# Altium footprint library FPGA_MG1.PcbLib: 42 footprints (part 3 of 3)
Each footprint in its own frame and in the unit in brackets; x right, y up, seen from the top. Pads: shape width x height; smd on the part's side, far side on the other; paste and mask are expansions set on the pad; w line width, h text height; cw(c..) or ccw(c..) is an arc to the next point about the centre after c.
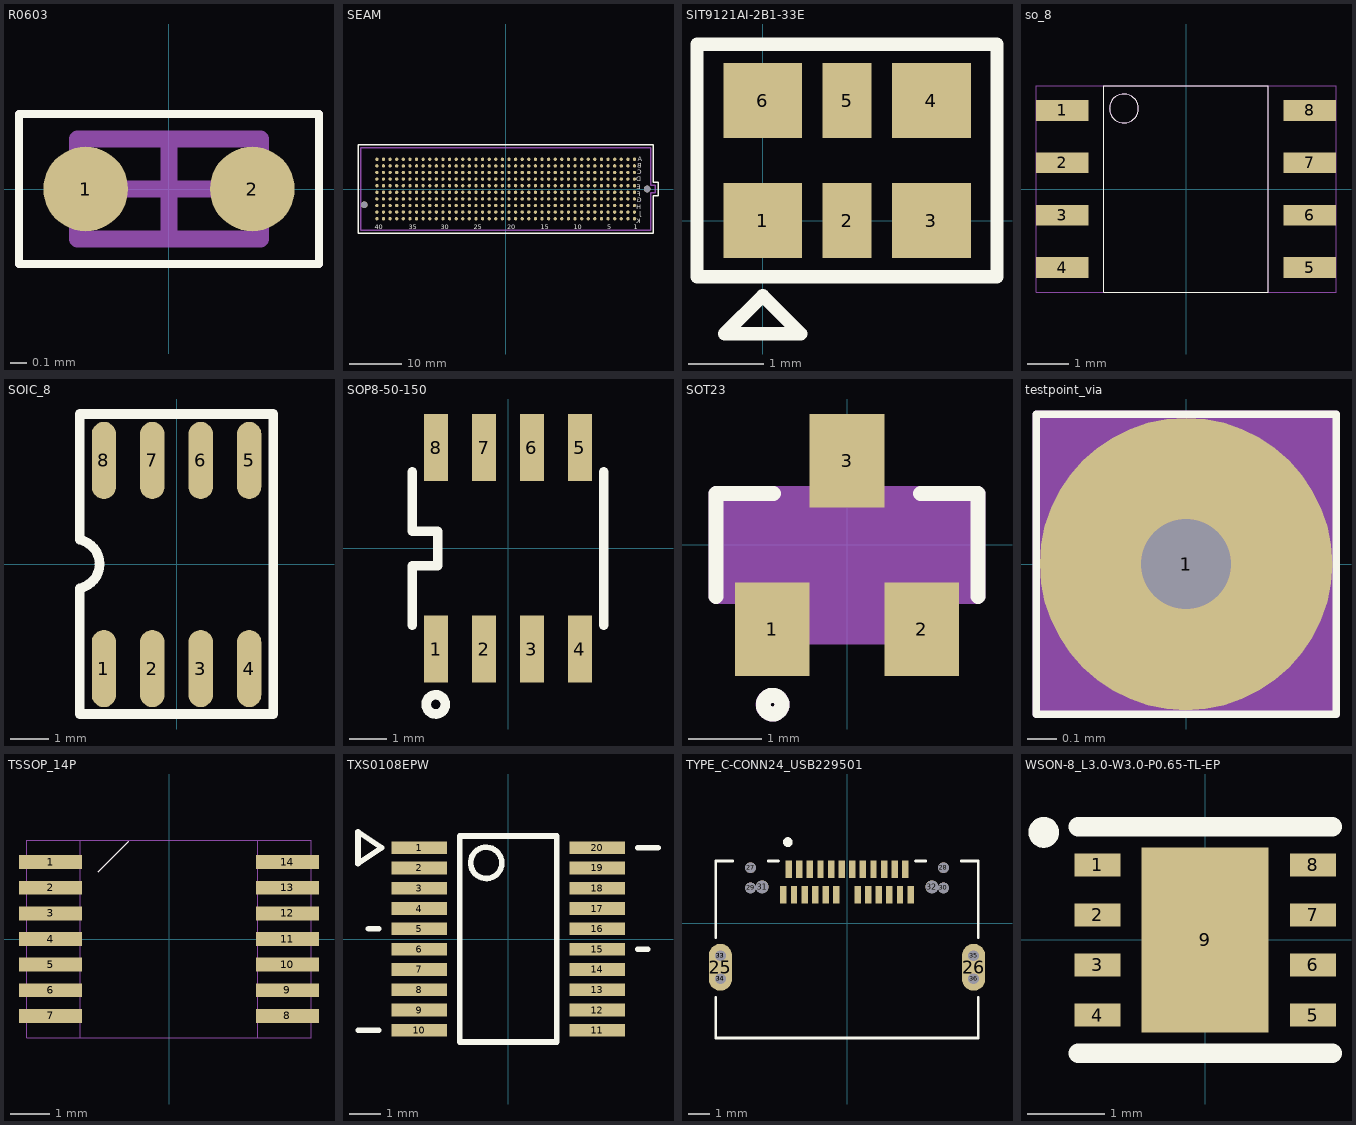
[diagram p2: the footprints below, top view; thin cyan lines are the x and y axes]

## R0603 [mil] "R0603"
pads (2):
  round 20 smd: 1(-19.68,0) 2(19.68,0)
Top Overlay:
  lines w1.97: -35.43,-17.72 35.43,-17.72 35.43,17.72 -35.43,17.72 -35.43,-17.72
Mechanical 13:
  lines w3.94: -21.65,-11.81 -21.65,11.81 21.65,11.81 21.65,-11.81 -21.65,-11.81
Mechanical 15:
  lines w1.97: -35.43,-17.72 35.43,-17.72 35.43,17.72 -35.43,17.72 -35.43,-17.72
  lines w3.94: -9.84,0 9.84,0 ; 0,-9.84 0,9.84
Mechanical 20:
  text "1.21K/1%" at 59,148 h25
  text "RESISTOR_R0603_1.21K/1%" at -241,148 h25
  text "SR0603" at -66,209 h25
3D body "R0402.STEP": height 13.78, standoff 0, extent -19.68,-9.84 19.68,9.84

## SEAM [mm]
pads (402):
  round 1.27 hole 1.27 unplated: 401(27.191,0) 402(-27.191,-3.048)
  round 0.64 smd: A1(24.765,5.715) A2(23.495,5.715) A3(22.225,5.715) A4(20.955,5.715) A5(19.685,5.715) A6(18.415,5.715) A7(17.145,5.715) A8(15.875,5.715) A9(14.605,5.715) A10(13.335,5.715) A11(12.065,5.715) A12(10.795,5.715) A13(9.525,5.715) A14(8.255,5.715) A15(6.985,5.715) A16(5.715,5.715) A17(4.445,5.715) A18(3.175,5.715) A19(1.905,5.715) A20(0.635,5.715) A21(-0.635,5.715) A22(-1.905,5.715) A23(-3.175,5.715) A24(-4.445,5.715) A25(-5.715,5.715) A26(-6.985,5.715) A27(-8.255,5.715) A28(-9.525,5.715) A29(-10.795,5.715) A30(-12.065,5.715) A31(-13.335,5.715) A32(-14.605,5.715) A33(-15.875,5.715) A34(-17.145,5.715) A35(-18.415,5.715) A36(-19.685,5.715) A37(-20.955,5.715) A38(-22.225,5.715) A39(-23.495,5.715) A40(-24.765,5.715) B1(24.765,4.445) B2(23.495,4.445) B3(22.225,4.445) B4(20.955,4.445) B5(19.685,4.445) B6(18.415,4.445) B7(17.145,4.445) B8(15.875,4.445) B9(14.605,4.445) B10(13.335,4.445) B11(12.065,4.445) B12(10.795,4.445) B13(9.525,4.445) B14(8.255,4.445) B15(6.985,4.445) B16(5.715,4.445) B17(4.445,4.445) B18(3.175,4.445) B19(1.905,4.445) B20(0.635,4.445) B21(-0.635,4.445) B22(-1.905,4.445) B23(-3.175,4.445) B24(-4.445,4.445) B25(-5.715,4.445) B26(-6.985,4.445) B27(-8.255,4.445) B28(-9.525,4.445) B29(-10.795,4.445) B30(-12.065,4.445) B31(-13.335,4.445) B32(-14.605,4.445) B33(-15.875,4.445) B34(-17.145,4.445) B35(-18.415,4.445) B36(-19.685,4.445) B37(-20.955,4.445) B38(-22.225,4.445) B39(-23.495,4.445) B40(-24.765,4.445) C1(24.765,3.175) C2(23.495,3.175) C3(22.225,3.175) C4(20.955,3.175) C5(19.685,3.175) C6(18.415,3.175) C7(17.145,3.175) C8(15.875,3.175) C9(14.605,3.175) C10(13.335,3.175) C11(12.065,3.175) C12(10.795,3.175) C13(9.525,3.175) C14(8.255,3.175) C15(6.985,3.175) C16(5.715,3.175) C17(4.445,3.175) C18(3.175,3.175) C19(1.905,3.175) C20(0.635,3.175) C21(-0.635,3.175) C22(-1.905,3.175) C23(-3.175,3.175) C24(-4.445,3.175) C25(-5.715,3.175) C26(-6.985,3.175) C27(-8.255,3.175) C28(-9.525,3.175) C29(-10.795,3.175) C30(-12.065,3.175) C31(-13.335,3.175) C32(-14.605,3.175) C33(-15.875,3.175) C34(-17.145,3.175) C35(-18.415,3.175) C36(-19.685,3.175) C37(-20.955,3.175) C38(-22.225,3.175) C39(-23.495,3.175) C40(-24.765,3.175) D1(24.765,1.905) D2(23.495,1.905) D3(22.225,1.905) D4(20.955,1.905) D5(19.685,1.905) D6(18.415,1.905) D7(17.145,1.905) D8(15.875,1.905) D9(14.605,1.905) D10(13.335,1.905) D11(12.065,1.905) D12(10.795,1.905) D13(9.525,1.905) D14(8.255,1.905) D15(6.985,1.905) D16(5.715,1.905) D17(4.445,1.905) D18(3.175,1.905) D19(1.905,1.905) D20(0.635,1.905) D21(-0.635,1.905) D22(-1.905,1.905) D23(-3.175,1.905) D24(-4.445,1.905) D25(-5.715,1.905) D26(-6.985,1.905) D27(-8.255,1.905) D28(-9.525,1.905) D29(-10.795,1.905) D30(-12.065,1.905) D31(-13.335,1.905) D32(-14.605,1.905) D33(-15.875,1.905) D34(-17.145,1.905) D35(-18.415,1.905) D36(-19.685,1.905) D37(-20.955,1.905) D38(-22.225,1.905) D39(-23.495,1.905) D40(-24.765,1.905) E1(24.765,0.635) E2(23.495,0.635) E3(22.225,0.635) E4(20.955,0.635) E5(19.685,0.635) E6(18.415,0.635) E7(17.145,0.635) E8(15.875,0.635) E9(14.605,0.635) E10(13.335,0.635) E11(12.065,0.635) E12(10.795,0.635) E13(9.525,0.635) E14(8.255,0.635) E15(6.985,0.635) E16(5.715,0.635) E17(4.445,0.635) E18(3.175,0.635) E19(1.905,0.635) E20(0.635,0.635) E21(-0.635,0.635) E22(-1.905,0.635) E23(-3.175,0.635) E24(-4.445,0.635) E25(-5.715,0.635) E26(-6.985,0.635) E27(-8.255,0.635) E28(-9.525,0.635) E29(-10.795,0.635) E30(-12.065,0.635) E31(-13.335,0.635) E32(-14.605,0.635) E33(-15.875,0.635) E34(-17.145,0.635) E35(-18.415,0.635) E36(-19.685,0.635) E37(-20.955,0.635) E38(-22.225,0.635) E39(-23.495,0.635) E40(-24.765,0.635) F1(24.765,-0.635) F2(23.495,-0.635) F3(22.225,-0.635) F4(20.955,-0.635) F5(19.685,-0.635) F6(18.415,-0.635) F7(17.145,-0.635) F8(15.875,-0.635) F9(14.605,-0.635) F10(13.335,-0.635) F11(12.065,-0.635) F12(10.795,-0.635) F13(9.525,-0.635) F14(8.255,-0.635) F15(6.985,-0.635) F16(5.715,-0.635) F17(4.445,-0.635) F18(3.175,-0.635) F19(1.905,-0.635) F20(0.635,-0.635) F21(-0.635,-0.635) F22(-1.905,-0.635) F23(-3.175,-0.635) F24(-4.445,-0.635) F25(-5.715,-0.635) F26(-6.985,-0.635) F27(-8.255,-0.635) F28(-9.525,-0.635) F29(-10.795,-0.635) F30(-12.065,-0.635) F31(-13.335,-0.635) F32(-14.605,-0.635) F33(-15.875,-0.635) F34(-17.145,-0.635) F35(-18.415,-0.635) F36(-19.685,-0.635) F37(-20.955,-0.635) F38(-22.225,-0.635) F39(-23.495,-0.635) F40(-24.765,-0.635) G1(24.765,-1.905) G2(23.495,-1.905) G3(22.225,-1.905) G4(20.955,-1.905) G5(19.685,-1.905) G6(18.415,-1.905) G7(17.145,-1.905) G8(15.875,-1.905) G9(14.605,-1.905) G10(13.335,-1.905) G11(12.065,-1.905) G12(10.795,-1.905) G13(9.525,-1.905) G14(8.255,-1.905) G15(6.985,-1.905) G16(5.715,-1.905) G17(4.445,-1.905) G18(3.175,-1.905) G19(1.905,-1.905) G20(0.635,-1.905) G21(-0.635,-1.905) G22(-1.905,-1.905) G23(-3.175,-1.905) G24(-4.445,-1.905) G25(-5.715,-1.905) G26(-6.985,-1.905) G27(-8.255,-1.905) G28(-9.525,-1.905) G29(-10.795,-1.905) G30(-12.065,-1.905) G31(-13.335,-1.905) G32(-14.605,-1.905) G33(-15.875,-1.905) G34(-17.145,-1.905) G35(-18.415,-1.905) G36(-19.685,-1.905) G37(-20.955,-1.905) G38(-22.225,-1.905) G39(-23.495,-1.905) G40(-24.765,-1.905) H1(24.765,-3.175) H2(23.495,-3.175) H3(22.225,-3.175) H4(20.955,-3.175) H5(19.685,-3.175) H6(18.415,-3.175) H7(17.145,-3.175) H8(15.875,-3.175) H9(14.605,-3.175) H10(13.335,-3.175) H11(12.065,-3.175) H12(10.795,-3.175) H13(9.525,-3.175) H14(8.255,-3.175) H15(6.985,-3.175) H16(5.715,-3.175) H17(4.445,-3.175) H18(3.175,-3.175) H19(1.905,-3.175) H20(0.635,-3.175) H21(-0.635,-3.175) H22(-1.905,-3.175) H23(-3.175,-3.175) H24(-4.445,-3.175) H25(-5.715,-3.175) H26(-6.985,-3.175) H27(-8.255,-3.175) H28(-9.525,-3.175) H29(-10.795,-3.175) H30(-12.065,-3.175) H31(-13.335,-3.175) H32(-14.605,-3.175) H33(-15.875,-3.175) H34(-17.145,-3.175) H35(-18.415,-3.175) H36(-19.685,-3.175) H37(-20.955,-3.175) H38(-22.225,-3.175) H39(-23.495,-3.175) H40(-24.765,-3.175) J1(24.765,-4.445) J2(23.495,-4.445) J3(22.225,-4.445) J4(20.955,-4.445) J5(19.685,-4.445) J6(18.415,-4.445) J7(17.145,-4.445) J8(15.875,-4.445) J9(14.605,-4.445) J10(13.335,-4.445) J11(12.065,-4.445) J12(10.795,-4.445) J13(9.525,-4.445) J14(8.255,-4.445) J15(6.985,-4.445) J16(5.715,-4.445) J17(4.445,-4.445) J18(3.175,-4.445) J19(1.905,-4.445) J20(0.635,-4.445) J21(-0.635,-4.445) J22(-1.905,-4.445) J23(-3.175,-4.445) J24(-4.445,-4.445) J25(-5.715,-4.445) J26(-6.985,-4.445) J27(-8.255,-4.445) J28(-9.525,-4.445) J29(-10.795,-4.445) J30(-12.065,-4.445) J31(-13.335,-4.445) J32(-14.605,-4.445) J33(-15.875,-4.445) J34(-17.145,-4.445) J35(-18.415,-4.445) J36(-19.685,-4.445) J37(-20.955,-4.445) J38(-22.225,-4.445) J39(-23.495,-4.445) J40(-24.765,-4.445) K1(24.765,-5.715) K2(23.495,-5.715) K3(22.225,-5.715) K4(20.955,-5.715) K5(19.685,-5.715) K6(18.415,-5.715) K7(17.145,-5.715) K8(15.875,-5.715) K9(14.605,-5.715) K10(13.335,-5.715) K11(12.065,-5.715) K12(10.795,-5.715) K13(9.525,-5.715) K14(8.255,-5.715) K15(6.985,-5.715) K16(5.715,-5.715) K17(4.445,-5.715) K18(3.175,-5.715) K19(1.905,-5.715) K20(0.635,-5.715) K21(-0.635,-5.715) K22(-1.905,-5.715) K23(-3.175,-5.715) K24(-4.445,-5.715) K25(-5.715,-5.715) K26(-6.985,-5.715) K27(-8.255,-5.715) K28(-9.525,-5.715) K29(-10.795,-5.715) K30(-12.065,-5.715) K31(-13.335,-5.715) K32(-14.605,-5.715) K33(-15.875,-5.715) K34(-17.145,-5.715) K35(-18.415,-5.715) K36(-19.685,-5.715) K37(-20.955,-5.715) K38(-22.225,-5.715) K39(-23.495,-5.715) K40(-24.765,-5.715)
Top Overlay:
  lines w0.254: -28.397,-8.484 -28.397,8.484 28.397,8.484 28.397,1.27 29.286,1.27 29.286,-1.27 28.397,-1.27 28.397,-8.484 -28.397,-8.484
  text "1" at 24.641,-7.702 h0.89
  text "5" at 19.558,-7.747 h0.89
  text "10" at 13.081,-7.747 h0.89
  text "15" at 6.731,-7.747 h0.89
  text "20" at 0.254,-7.747 h0.89
  text "25" at -6.096,-7.747 h0.89
  text "30" at -12.446,-7.747 h0.89
  text "35" at -18.669,-7.747 h0.89
  text "40" at -25.146,-7.747 h0.89
  text "J" at 26.104,-5.172 h0.89
  text "H" at 26.104,-3.932 h0.89
  text "G" at 26.17,-2.561 h0.89
  text "F" at 26.002,-1.403 h0.89
  text "E" at 25.947,-0.074 h0.89
  text "D" at 26.048,1.475 h0.89
  text "C" at 26.124,2.827 h0.89
  text "K" at 26.013,-6.587 h0.89
  text "B" at 26.147,4.119 h0.89
  text "A" at 26.226,5.346 h0.89
Mechanical 5:
  lines w0.254: -27.889,-7.976 27.889,-7.976 27.889,-0.762 28.778,-0.762 28.778,0.762 27.889,0.762 27.889,7.976 -27.889,7.976 -27.889,-7.976

## SIT9121AI-2B1-33E [mm]
pads (6):
  rect 1.05x1 smd: 1(0,0) 3(2.25,0) 4(2.25,1.6) 6(0,1.6)
  rect 0.65x1 smd: 2(1.125,0) 5(1.125,1.6)
Top Overlay:
  lines w0.178: -0.875,-0.75 3.125,-0.75 3.125,2.35 -0.875,2.35 -0.875,-0.75 ; -0.508,-1.508 0.508,-1.508 0,-1 -0.508,-1.508

## so_8 [mm] "SO_8"
pads (8):
  rect 1.27x0.5 smd: 1(-3,1.905) 2(-3,0.635) 3(-3,-0.635) 4(-3,-1.905) 5(3,-1.905) 6(3,-0.635) 7(3,0.635) 8(3,1.905)
Top Overlay:
  circle w0.025: c-1.506,1.954 r0.351
  lines w0.025: -2,-2.5 -2,2.5 2,2.5 2,-2.5 -2,-2.5
Mechanical 5:
  lines w0.025: -2,-2.5 -2,2.5 2,2.5 2,-2.5 -2,-2.5 ; -1.857,1.954 cw(c-1.506,1.954) -1.506,2.305 cw(c-1.506,1.954) -1.155,1.954 cw(c-1.506,1.954) -1.506,1.603 cw(c-1.506,1.954) -1.857,1.954
  text "U8" at 1.058,1.926 h0.64
Mechanical 14:
  text "6" at 2.797,-0.635 h0.51
  text "1" at -3.203,1.905 h0.51
  text "8" at 2.797,1.905 h0.51
  text "2" at -3.203,0.635 h0.51
  text "5" at 2.797,-1.905 h0.51
  text "4" at -3.203,-1.905 h0.51
  text "3" at -3.203,-0.635 h0.51
  text "7" at 2.797,0.635 h0.51
Mechanical 16:
  lines w0.025: -3.64,-2.5 -3.64,2.5 ; -3.64,-2.5 3.64,-2.5 ; -3.64,-2.5 -3.64,2.5 ; -3.64,-2.5 3.64,-2.5 ; -3.64,2.5 3.64,2.5 ; -3.64,2.5 3.64,2.5 ; 3.64,-2.5 3.64,2.5 ; 3.64,-2.5 3.64,2.5 ; -2,-2.5 -2,2.5 2,2.5 2,-2.5 -2,-2.5

## SOIC_8 [mil] "SOIC_8"
pads (8):
  oval 25.2x79.9 smd: 1(-75,-107.5) 2(-25,-107.5) 3(25,-107.5) 4(75,-107.5) 5(75,107.5) 6(25,107.5) 7(-25,107.5) 8(-75,107.5)
Top Overlay:
  lines w10: -100,-154.5 100,-154.5 100,155.5 -100,155.5 -100,25.5 cw(c-105.01,0.5) -100,-24.5 -100,-154.5
Mechanical 17:
  text ".Designator" at -130,-220 h25

## SOP8-50-150 [mil] "SOP8-50-150"
pads (8):
  rect 25x70 smd: 1(-75,-105) 2(-25,-105) 3(25,-105) 4(75,-105) 5(75,105) 6(25,105) 7(-25,105) 8(-75,105)
Top Overlay:
  circle w10: c-75.23,-162.68 r9.99
  lines w10: -100,-80 -100,-18 -73.09,-18 -73.09,18 -100,18 -100,80 ; 100,-80 100,80
Mechanical 5:
  text "ACS712_SOP8-50-150_ACS712ELCTR-" at -122.62,217.76 h62.99
  text "U83" at 67.67,-184.95 h25
Mechanical 14:
  text "7" at -21,105 h10
  text "1" at -71,-105 h10
  text "2" at -21,-105 h10
  text "6" at 29,105 h10
  text "3" at 29,-105 h10
  text "4" at 79,-105 h10
  text "8" at -71,105 h10
  text "5" at 79,105 h10

## SOT23 [mil] "SOT23"
pads (3):
  rect 40x50 smd: 1(-40,-45) 2(40,-45) 3(0,45)
Top Overlay:
  circle w8: c-39.8,-85.4 r5
  lines w8: -70,-27.6 -70,27.6 -39.4,27.6 ; 39.4,27.6 70,27.6 70,-27.6
Mechanical 5:
  lines w8: -70,-27.6 -70,27.6 -39.4,27.6 ; 39.4,27.6 70,27.6 70,-27.6 ; -44.8,-85.4 ccw(c-39.8,-85.4) -39.8,-90.4 ccw(c-39.8,-85.4) -34.8,-85.4 ccw(c-39.8,-85.4) -39.8,-80.4 ccw(c-39.8,-85.4) -44.8,-85.4
  text "REF3025AIDDBZT_1_SOT23_REF3012A" at -85.3,157.4 h60
  text "U16" at 117.51,67.5 h25
Mechanical 14:
  text "2" at 40,-51.3 h15.75
  text "1" at -40,-51.3 h15.75
  text "3" at 0,38.7 h15.75
Mechanical 16:
  region: -49.2,-49.2 -49.2,-27.6 -70,-27.6 -70,27.6 -11.8,27.6 -11.8,49.2 11.8,49.2 11.8,27.6 70,27.6 70,-27.6 49.2,-27.6 49.2,-49.2
  lines w8: -70,-27.6 -70,27.6 -11.8,27.6 -11.8,49.2 11.8,49.2 11.8,27.6 70,27.6 70,-27.6 49.2,-27.6 49.2,-49.2 -49.2,-49.2 -49.2,-27.6 -70,-27.6
3D body: height 150, standoff 0, extent -70,-49.2 70,49.2

## testpoint_via [mil] "TESTPOINT_VIA"
pads (1):
  round 39 / inner round 20 / far side round 39 hole 12: 1(0,0)
Top Overlay:
  lines w1: -20,-20 20,-20 20,20 -20,20 -20,-20
Mechanical 5:
  lines w1: -20,-20 20,-20 20,20 -20,20 -20,-20
  text "TP38" at -117.19,97.15 h25
Mechanical 14:
  text "1" at 0,8 h20
Mechanical 16:
  pour cut-out: -20,-20 20,-20 20,20 -20,20
  region: -20,-20 20,-20 20,20 -20,20
  lines w1: -20,-20 20,-20 20,20 -20,20 -20,-20
Mechanical 17:
  text ".Designator" at 0,40 h25
3D body: height 150, standoff 0, extent -20,-20 20,20

## TSSOP_14P [mm] "TSSOP_14P"
pads (14):
  rect 1.6x0.35 smd: 1(-3,1.95) 2(-3,1.3) 3(-3,0.65) 4(-3,0) 5(-3,-0.65) 6(-3,-1.3) 7(-3,-1.95) 8(3,-1.95) 9(3,-1.3) 10(3,-0.65) 11(3,0) 12(3,0.65) 13(3,1.3) 14(3,1.95)
Top Overlay:
  lines w0.025: -1.792,1.708 -1.789,1.708 -1.016,2.481
Mechanical 5:
  lines w0.025: -1.792,1.708 -1.789,1.708 -1.016,2.481
  text "U9" at -0.381,-3.492 h0.64
Mechanical 14:
  text "14" at 2.594,1.95 h0.51
  text "5" at -3.203,-0.65 h0.51
  text "6" at -3.203,-1.3 h0.51
  text "3" at -3.203,0.65 h0.51
  text "8" at 2.797,-1.95 h0.51
  text "2" at -3.203,1.3 h0.51
  text "12" at 2.594,0.65 h0.51
  text "11" at 2.594,0 h0.51
  text "9" at 2.797,-1.3 h0.51
  text "7" at -3.203,-1.95 h0.51
  text "4" at -3.203,0 h0.51
  text "1" at -3.203,1.95 h0.51
  text "10" at 2.594,-0.65 h0.51
  text "13" at 2.594,1.3 h0.51
Mechanical 16:
  lines w0.025: -3.605,-2.5 3.605,-2.5 ; -3.605,-2.5 -3.605,2.5 ; -3.605,-2.5 3.605,-2.5 ; -3.605,-2.5 -3.605,2.5 ; -3.605,2.5 3.605,2.5 ; -3.605,2.5 3.605,2.5 ; 3.605,-2.5 3.605,2.5 ; 3.605,-2.5 3.605,2.5 ; -2.25,-2.5 2.25,-2.5 2.25,2.5 -2.25,2.5 -2.25,-2.5
Mechanical 17:
  text ".Designator" at -1.016,0 h1.27

## TXS0108EPW [mm]
pads (20):
  rect 1.778x0.406 smd: 1(-2.85,2.925) 2(-2.85,2.275) 3(-2.85,1.625) 4(-2.85,0.975) 5(-2.85,0.325) 6(-2.85,-0.325) 7(-2.85,-0.975) 8(-2.85,-1.625) 9(-2.85,-2.275) 10(-2.85,-2.925) 11(2.85,-2.925) 12(2.85,-2.275) 13(2.85,-1.625) 14(2.85,-0.975) 15(2.85,-0.325) 16(2.85,0.325) 17(2.85,0.975) 18(2.85,1.625) 19(2.85,2.275) 20(2.85,2.925)
Top Overlay:
  circle w0.178: c-0.703,2.438 r0.5
  lines w0.178: -4.8,-2.925 -4.15,-2.925 ; -4.475,0.325 -4.15,0.325 ; 4.15,-0.325 4.475,-0.325 ; 4.15,2.925 4.8,2.925 ; -4.812,2.417 -4.812,3.433 -4.05,2.925 -4.812,2.417 ; -1.55,-3.3 1.55,-3.3 1.55,3.3 -1.55,3.3 -1.55,-3.3

## TYPE_C-CONN24_USB229501 [mil]
pads (38):
  oval 43x87 smd: 25(-235.04,-81.67) 26(235.04,-81.67)
  round 20 hole 20: 27(-179.13,103.17) 28(179.13,103.17) 29(-179.13,65.73) 30(179.13,65.73) 33(-235.04,-60.17) 33(-235.04,-60.17) 34(-235.04,-103.17) 34(-235.04,-103.17) 35(235.04,-60.17) 36(235.04,-103.17)
  round 24 hole 24: 31(-157.48,67.74) 32(157.48,67.74)
  rect 12x32 smd paste+0 mask+0: A1(-108.27,100.38) A2(-88.58,100.38) A3(-68.9,100.38) A4(-49.21,100.38) A5(-29.53,100.38) A6(-9.84,100.38) A7(9.84,100.38) A8(29.53,100.38) A9(49.21,100.38) A10(68.9,100.38) A11(88.58,100.38) A12(108.27,100.38) B1(118.11,53.13) B2(98.43,53.13) B3(78.74,53.13) B4(59.06,53.13) B5(39.37,53.13) B6(19.68,53.13) B7(-19.68,53.13) B8(-39.37,53.13) B9(-59.06,53.13) B10(-78.74,53.13) B11(-98.43,53.13) B12(-118.11,53.13)
Top Overlay:
  circle w10: c-110,150.85 r4
  lines w5: -244,-137.09 -244,-213.15 244,-213.15 244,-137.09 ; -244,-26.25 -244,115.85 -212.23,115.85 ; -146.03,115.85 -127.1,115.85 ; 127.1,115.85 146.03,115.85 ; 212.23,115.85 244,115.85 244,-26.25
Bottom Overlay:
  circle w10: c-110,150.85 r4
Mechanical 13:
  circle w5: c-110,150.85 r4

## WSON-8_L3.0-W3.0-P0.65-TL-EP [mm]
pads (9):
  rect 0.6x0.3 smd: 1(-1.4,0.975) 2(-1.4,0.325) 3(-1.4,-0.325) 4(-1.4,-0.975) 5(1.4,-0.975) 6(1.4,-0.325) 7(1.4,0.325) 8(1.4,0.975)
  rect 1.65x2.4 smd: 9(0,0)
Top Overlay:
  lines w0.2: -1.999,1.397 cw(c-2.099,1.398) -1.999,1.4
  lines w0.254: -1.651,-1.473 1.649,-1.473 ; -1.649,1.473 1.651,1.473